# EAGLE library part BQ25570 (library BQ25570)
bq25570 Nano Power Boost Charger and Buck Converter for Energy Harvester Powered Applications, VQFN-20 Source: Datasheet <http://www.ti.com/lit/gpn/bq25570>
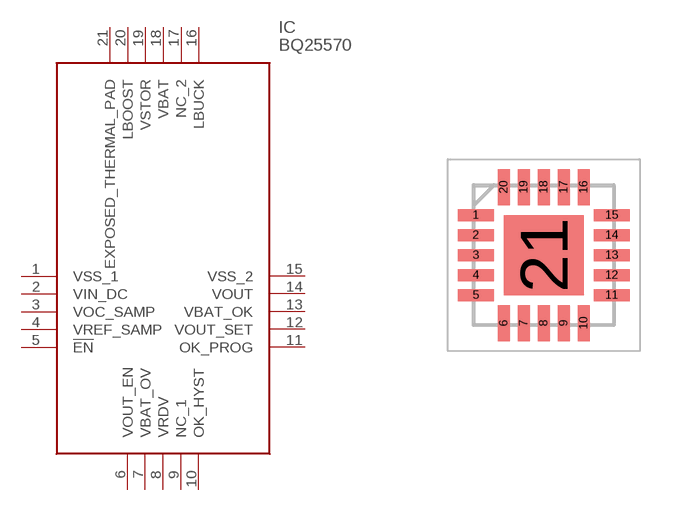
[diagram p0: symbol with the pads of QFN50P350X350X100-21N; footprint QFN50P350X350X100-21N]

Designator prefix IC

## BQ25570 (Description: bq25570 Nano Power Boost Charger and Buck Converter for Energy Harvester Powered Applications, VQFN-20; Height: 1mm; Manufacturer_Name: Texas Instruments; Manufacturer_Part_Number: BQ25570)  [QFN50P350X350X100-21N]
1  VSS_1
2  VIN_DC
3  VOC_SAMP
4  VREF_SAMP
5  !EN
6  VOUT_EN
7  VBAT_OV
8  VRDV
9  NC_1
10  OK_HYST
11  OK_PROG
12  VOUT_SET
13  VBAT_OK
14  VOUT
15  VSS_2
16  LBUCK
17  NC_2
18  VBAT
19  VSTOR
20  LBOOST
21  EXPOSED_THERMAL_PAD

## Footprint QFN50P350X350X100-21N (pad centres in mm)
RGR (S-PVQFN-N20)
smd 0.9 x 0.3: 1 -1.7,1; 2 -1.7,0.5; 3 -1.7,0; 4 -1.7,-0.5; 5 -1.7,-1; 11 1.7,-1; 12 1.7,-0.5; 13 1.7,0; 14 1.7,0.5; 15 1.7,1
smd 0.3 x 0.9: 6 -1,-1.7; 7 -0.5,-1.7; 8 0,-1.7; 9 0.5,-1.7; 10 1,-1.7; 16 1,1.7; 17 0.5,1.7; 18 0,1.7; 19 -0.5,1.7; 20 -1,1.7
smd 2 x 2: 21 0,0